# EAGLE library part A2235-H (library A2235-H)
Gps Module, Mini Outline w/ Ant
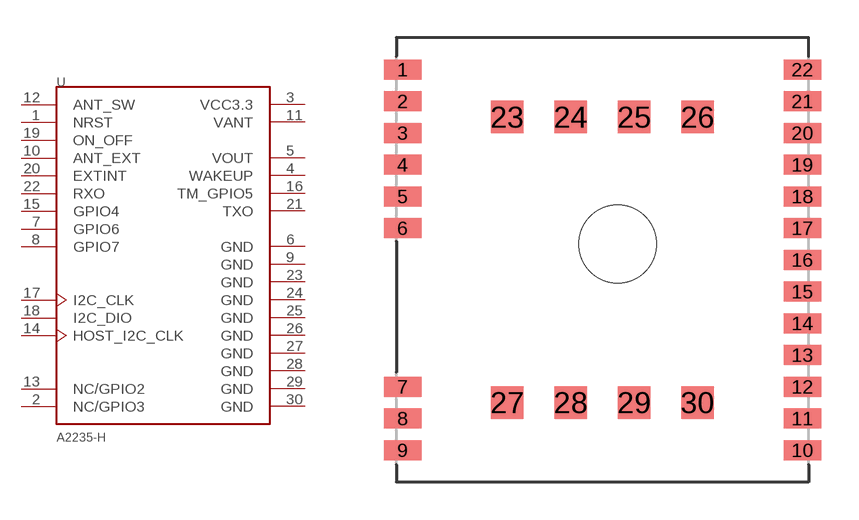
[diagram p0: symbol with the pads of XCVR_A2235-H; footprint XCVR_A2235-H]

Designator prefix U

## A2235-H  [XCVR_A2235-H]
1  NRST  in
2  NC/GPIO3
3  VCC3.3  pwr
4  WAKEUP  out
5  VOUT  out
6  GND  pwr
7  GPIO6  in
8  GPIO7  in
9  GND  pwr
10  ANT_EXT  in
11  VANT  pwr
12  ANT_SW  in
13  NC/GPIO2
14  HOST_I2C_CLK
15  GPIO4  in
16  TM_GPIO5  out
17  I2C_CLK
18  I2C_DIO
19  ON_OFF  in
20  EXTINT  in
21  TXO  out
22  RXO  in
23  GND  pwr
24  GND  pwr
25  GND  pwr
26  GND  pwr
27  GND  pwr
28  GND  pwr
29  GND  pwr
30  GND  pwr

## Footprint XCVR_A2235-H (pad centres in mm)
smd 1.5 x 0.8: 1 -8,7.62; 2 -8,6.35; 3 -8,5.08; 4 -8,3.81; 5 -8,2.54; 6 -8,1.27; 7 -8,-5.08; 8 -8,-6.35; 9 -8,-7.62; 10 8,-7.62; 11 8,-6.35; 12 8,-5.08; 13 8,-3.81; 14 8,-2.54; 15 8,-1.27; 16 8,0; 17 8,1.27; 18 8,2.54; 19 8,3.81; 20 8,5.08; 21 8,6.35; 22 8,7.62
smd 1.3 x 1.3: 23 -3.81,5.715; 24 -1.27,5.715; 25 1.27,5.715; 26 3.81,5.715; 27 -3.81,-5.715; 28 -1.27,-5.715; 29 1.27,-5.715; 30 3.81,-5.715
hole 3.1 at 0.605,0.63